# Altium footprint library SO16-SPE-M25P16.PcbLib: 1 footprints
Each footprint in its own frame and in the unit in brackets; x right, y up, seen from the top. Pads: shape width x height; smd on the part's side, far side on the other; paste and mask are expansions set on the pad; w line width, h text height; cw(c..) or ccw(c..) is an arc to the next point about the centre after c.
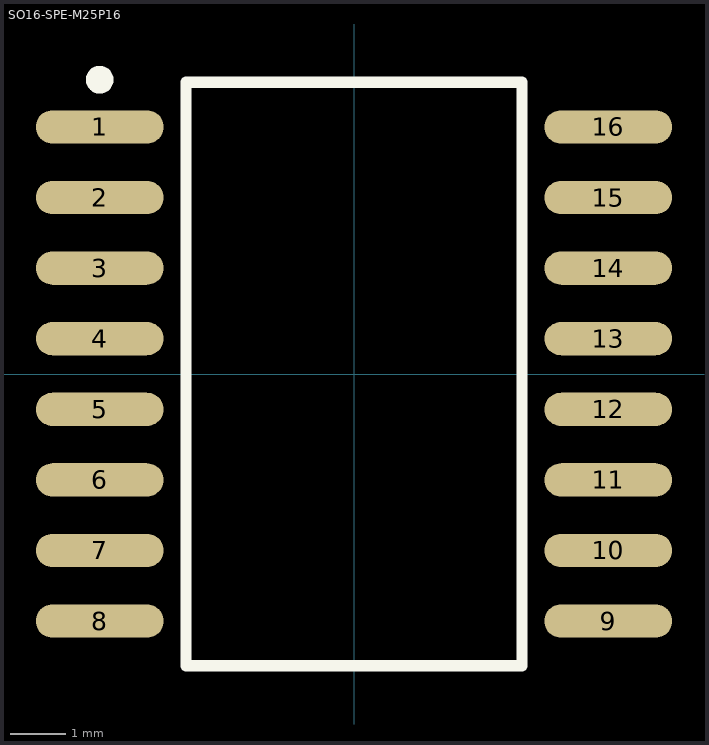
[diagram p0: the footprint, top view; thin cyan lines are the x and y axes]

## SO16-SPE-M25P16 [mm] "SOP, 16-Leads, Body 10,5x7,6mm (max), Pitch 1,27mm, IPC Medium Density"
height 2
pads (16):
  oval 2.3x0.6 smd: 1(-4.575,4.445) 2(-4.575,3.175) 3(-4.575,1.905) 4(-4.575,0.635) 5(-4.575,-0.635) 6(-4.575,-1.905) 7(-4.575,-3.175) 8(-4.575,-4.445) 9(4.575,-4.445) 10(4.575,-3.175) 11(4.575,-1.905) 12(4.575,-0.635) 13(4.575,0.635) 14(4.575,1.905) 15(4.575,3.175) 16(4.575,4.445)
Top Overlay:
  circle w0.25: c-4.575,5.295 r0.125
  lines w0.2: -3.025,-5.25 -3.025,5.25 3.025,5.25 3.025,-5.25 -3.025,-5.25
3D body: height 1.7, standoff 0, extent -5.321,-4.953 5.321,4.953